# Altium footprint library D1.PcbLib: 36 footprints (part 2 of 3)
Each footprint in its own frame and in the unit in brackets; x right, y up, seen from the top. Pads: shape width x height; smd on the part's side, far side on the other; paste and mask are expansions set on the pad; w line width, h text height; cw(c..) or ccw(c..) is an arc to the next point about the centre after c.
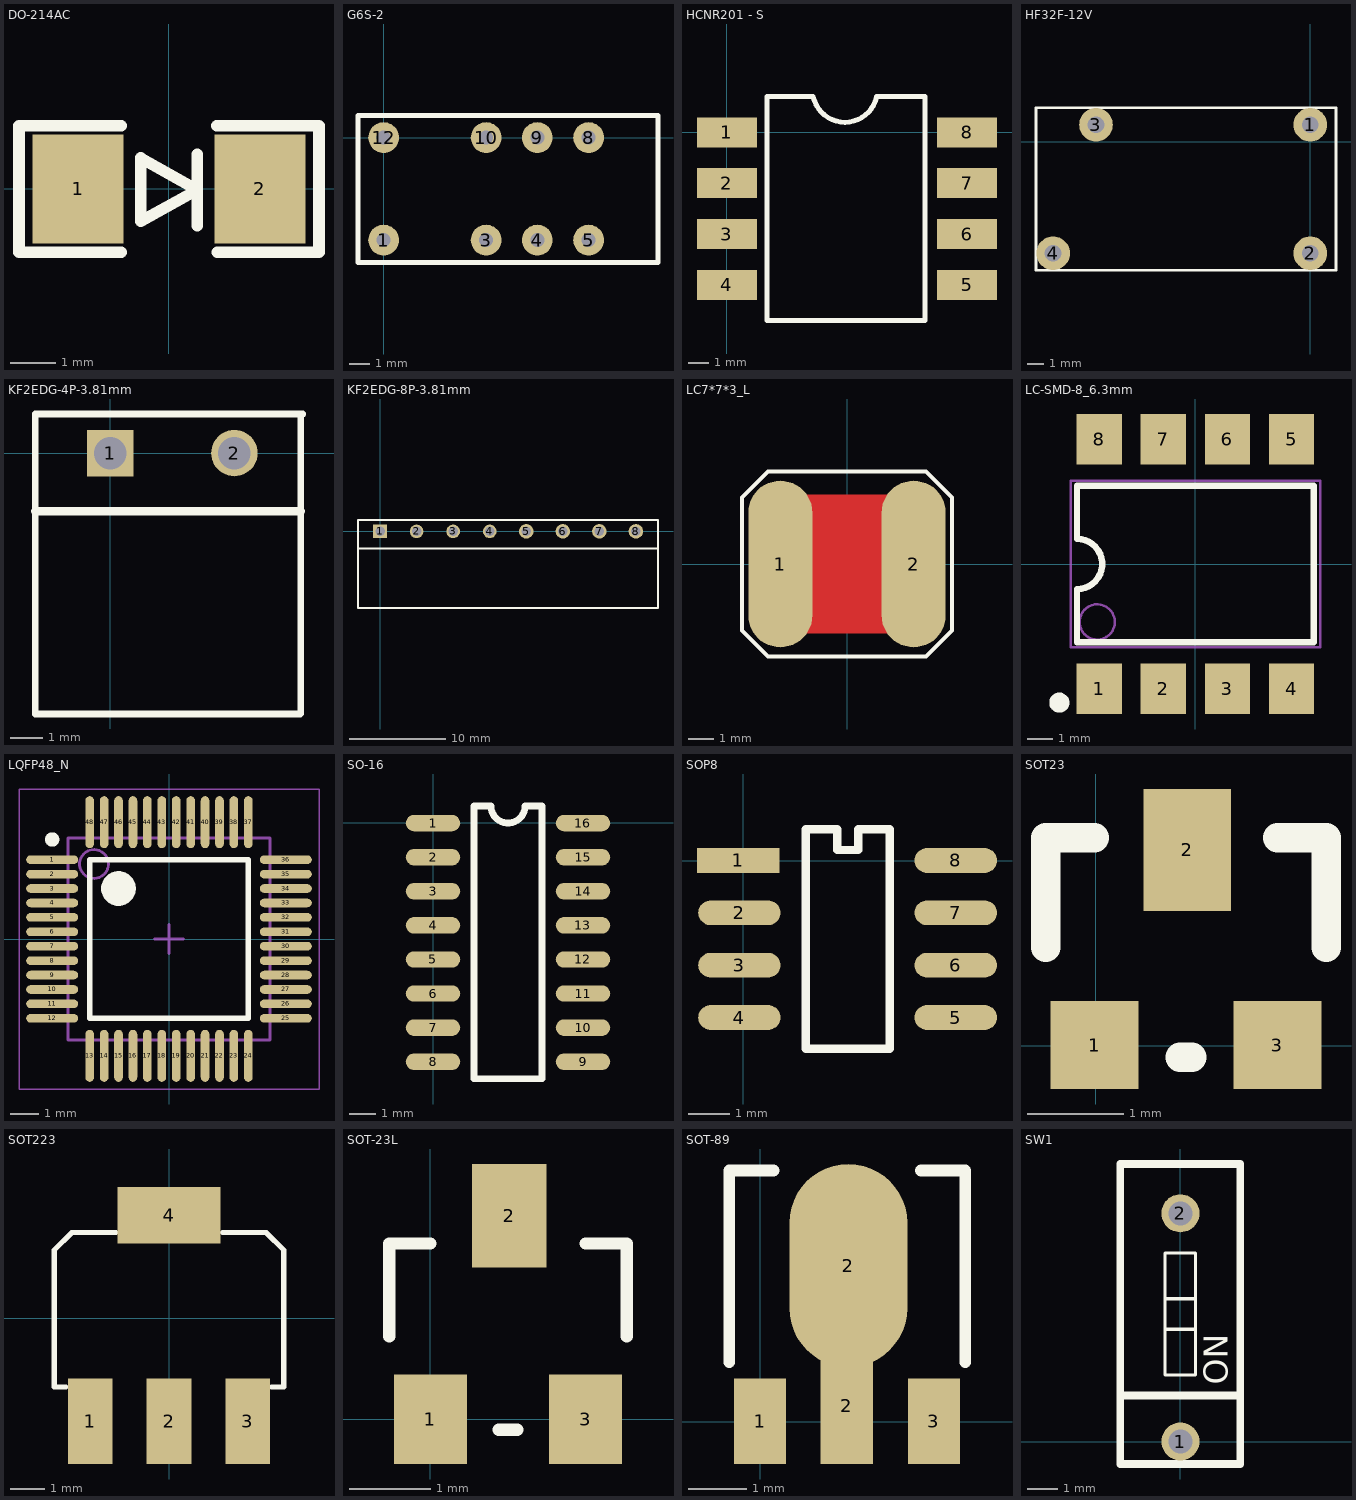
[diagram p1: the footprints below, top view; thin cyan lines are the x and y axes]

## DO-214AC [mm]
height 0.241
pads (2):
  rect 2x2.4 smd: 1(-2,0) 2(2,0)
Top Overlay:
  lines w0.254: -1.054,-1.397 -3.302,-1.397 -3.302,1.397 -1.054,1.397 ; 0.622,-0.813 0.622,0.762 ; 1.054,1.397 3.302,1.397 3.302,-1.397 1.067,-1.397 ; -0.622,-0.711 0.622,-0.025 -0.622,0.686 -0.622,-0.711

## G6S-2 [mil]
pads (8):
  round 60 hole 27.56: 1(0,-200) 3(200,-200) 4(300,-200) 5(400,-200) 8(400,0) 9(300,0) 10(200,0) 12(0,0)
Top Overlay:
  lines w10: -50,-244.09 535.43,-244.09 535.43,43.31 -50,43.31 -50,-244.09

## HCNR201 - S [mm]
height 0.241
pads (8):
  rect 3x1.5 smd: 1(0,0) 2(0,-2.54) 3(0,-5.08) 4(0,-7.62) 5(12,-7.62) 6(12,-5.08) 7(12,-2.54) 8(12,0)
Top Overlay:
  lines w0.254: 2.002,-9.411 2.002,1.789 4.31,1.789 ccw(c5.897,2.131) 7.485,1.789 9.898,1.789 9.898,-9.411 2.002,-9.411

## HF32F-12V [mm]
pads (4):
  round 2 hole 1: 1(0,1.016) 2(0,-6.604) 3(-12.7,1.016) 4(-15.24,-6.604)
Top Overlay:
  lines w0.152: -16.256,-7.62 -16.256,1.016 -16.256,2.032 0.508,2.032 1.524,2.032 1.524,1.016 1.524,-7.112 1.524,-7.62 -16.256,-7.62

## KF2EDG-4P-3.81mm [mil]
height 98.43
pads (2):
  rect 56x56 hole 39.37: 1(0,0)
  round 56 hole 39.37: 2(150,0)
Top Overlay:
  lines w7.87: -90.55,-314.96 -90.55,47.24 232.76,47.24 230,44.49 230,-314.67 229.7,-314.96 -90.55,-314.96
  lines w10: -90.55,-70 230,-70

## KF2EDG-8P-3.81mm [mil]
pads (8):
  rect 56x56 hole 39.37: 1(0,0)
  round 56 hole 39.37: 2(150,0) 3(300,0) 4(450,0)
  round 60 hole 39.37: 5(600,0) 6(750,0) 7(900,0) 8(1050,0)
Top Overlay:
  lines w7.87: -90.55,-70 1140.55,-70 ; -90.55,-314.96 -90.55,47.24 1140.55,47.24 1140.55,-314.96 -90.55,-314.96

## LC7*7*3_L [mm]
height 0.241
pads (2):
  oval 2.5x6.5 smd: 1(-2.6,0) 2(2.6,0)
Top Layer:
  pour cut-out: -1.803,2.705 1.854,2.705 1.854,-2.705 -1.803,-2.705
Top Overlay:
  lines w0.152: 3.048,-3.607 -2.565,-3.607 -3.073,-3.607 -4.089,-2.591 -4.089,2.591 -3.073,3.607 -2.464,3.607 3.073,3.607 4.089,2.591 4.089,-2.591 3.073,-3.607
3D body: height 3.5, standoff 0, extent -2.455,-2.4 1.845,2.4

## LC-SMD-8_6.3mm [mm]
pads (8):
  rect 1.8x2 smd: 1(-3.81,-4.95) 2(-1.27,-4.95) 3(1.27,-4.95) 4(3.81,-4.95) 5(3.81,4.95) 6(1.27,4.95) 7(-1.27,4.95) 8(-3.81,4.95)
Top Overlay:
  circle w0.4: c-5.4,-5.5 r0.2
  lines w0.254: -4.7,-3.1 4.7,-3.1 4.7,3.1 -4.7,3.1 -4.7,1 cw(c-4.7,0) -4.7,-1 -4.7,-3.1
Mechanical 13:
  circle w0.1: c-3.9,-2.3 r0.7
  lines w0.1: -4.95,-3.3 4.95,-3.3 4.95,3.3 -4.95,3.3 -4.95,-3.3

## LQFP48_N [mm] "Thin QFP, 48-Leads, Body 7x7mm, Pitch 0.5mm, IPC Medium Density"
height 1.6
pads (48):
  oval 1.8x0.3 smd: 1(-4.05,2.75) 2(-4.05,2.25) 3(-4.05,1.75) 4(-4.05,1.25) 5(-4.05,0.75) 6(-4.05,0.25) 7(-4.05,-0.25) 8(-4.05,-0.75) 9(-4.05,-1.25) 10(-4.05,-1.75) 11(-4.05,-2.25) 12(-4.05,-2.75) 25(4.05,-2.75) 26(4.05,-2.25) 27(4.05,-1.75) 28(4.05,-1.25) 29(4.05,-0.75) 30(4.05,-0.25) 31(4.05,0.25) 32(4.05,0.75) 33(4.05,1.25) 34(4.05,1.75) 35(4.05,2.25) 36(4.05,2.75)
  oval 0.3x1.8 smd: 13(-2.75,-4.05) 14(-2.25,-4.05) 15(-1.75,-4.05) 16(-1.25,-4.05) 17(-0.75,-4.05) 18(-0.25,-4.05) 19(0.25,-4.05) 20(0.75,-4.05) 21(1.25,-4.05) 22(1.75,-4.05) 23(2.25,-4.05) 24(2.75,-4.05) 37(2.75,4.05) 38(2.25,4.05) 39(1.75,4.05) 40(1.25,4.05) 41(0.75,4.05) 42(0.25,4.05) 43(-0.25,4.05) 44(-0.75,4.05) 45(-1.25,4.05) 46(-1.75,4.05) 47(-2.25,4.05) 48(-2.75,4.05)
Top Overlay:
  circle w0.25: c-4.05,3.45 r0.125
  circle w0.6: c-1.75,1.75 r0.3
  lines w0.2: -2.75,-2.75 -2.75,2.75 2.75,2.75 2.75,-2.75 -2.75,-2.75
Mechanical 13:
  circle w0.1: c-2.6,2.6 r0.5
  lines w0.1: -3.5,-3.5 -3.5,3.5 3.5,3.5 3.5,-3.5 -3.5,-3.5
Mechanical 15:
  lines w0.05: -5.2,-5.2 -5.2,5.2 5.2,5.2 5.2,-5.2 -5.2,-5.2
  lines w0.1: -0.5,0 0.5,0 ; 0,-0.5 0,0.5
3D body: height 1.6, standoff 0, extent -3.5,-3.5 3.5,3.5

## SO-16 [mil]
height 98.43
pads (16):
  oval 80x24 smd: 1(-0.2,-0.3) 2(-0.2,-50.3) 3(-0.2,-100.3) 4(-0.2,-150.3) 5(-0.2,-200.3) 6(-0.2,-250.3) 7(-0.2,-300.3) 8(-0.2,-350.3) 9(219.8,-350.3) 10(219.8,-300.3) 11(219.8,-250.3) 12(219.8,-200.3) 13(219.8,-150.3) 14(219.8,-100.3) 15(219.8,-50.3) 16(219.8,-0.3)
Top Overlay:
  lines w10: 59.8,-375.3 159.8,-375.3 159.8,24.7 134.8,24.7 cw(c109.8,24.7) 84.8,24.7 59.8,24.7 59.8,-375.3

## SOP8 [mm]
height 0.241
pads (8):
  rect 2x0.6 smd: 1(-0.123,0.006)
  oval 2x0.6 smd: 2(-0.093,-1.264) 3(-0.093,-2.534) 4(-0.093,-3.804) 5(5.157,-3.804) 6(5.157,-2.534) 7(5.157,-1.264) 8(5.157,0.006)
Top Overlay:
  lines w0.203: 1.518,-4.566 3.55,-4.566 3.55,0.768 2.788,0.768 2.788,0.26 2.28,0.26 2.28,0.768 1.518,0.768 1.518,-4.566

## SOT23 [mil]
height 9.5
pads (3):
  rect 36x36 smd: 1(-0.49,0.35) 3(74.51,0.35)
  rect 36x50 smd: 2(37.51,80.35)
Top Overlay:
  lines w12: -20.49,40.35 -20.49,85.35 -0.49,85.35 ; 34.51,-4.65 39.51,-4.65 ; 74.51,85.35 94.51,85.35 94.51,40.35

## SOT223 [mm]
pads (4):
  rect 1.3x2.5 smd: 1(-2.3,-3) 2(0,-3) 3(2.3,-3)
  rect 3x1.65 smd: 4(0,3)
Top Overlay:
  lines w0.152: -3.004,-2 -3.35,-2 -3.35,1.984 -2.834,2.5 -1.549,2.5 ; 1.561,2.5 2.834,2.5 3.35,1.984 3.35,-2.007 ; 2.997,-2.007 3.327,-2.007

## SOT-23L [mm]
pads (3):
  rect 0.9x1.1 smd: 1(0,0) 3(1.905,0)
  rect 0.914x1.27 smd: 2(0.965,2.5)
Top Overlay:
  lines w0.152: -0.508,1.016 -0.508,2.159 0,2.159 ; 0.838,-0.127 1.067,-0.127 ; 1.905,2.159 2.413,2.159 2.413,1.016

## SOT-89 [mm]
height 0.241
pads (4):
  rect 0.9x1.473 smd: 1(0,0.006) 3(2.994,0.006)
  rect 0.9x2 smd: 2(1.494,0.273)
  oval 2.032x3.5 smd: 2(1.519,2.686)
Top Overlay:
  lines w0.203: -0.532,1.022 -0.532,4.324 0.23,4.324 ; 2.77,4.324 3.532,4.324 3.532,1.022

## SW1 [mm]
pads (2):
  round 1.27 hole 0.8: 1(0.011,0.015) 2(0.011,7.62)
Top Overlay:
  lines w0.102: -0.497,3.757 0.519,3.757 ; -0.497,4.773 0.519,4.773 ; -0.497,2.233 0.519,2.233 0.519,6.297 -0.497,6.297 -0.497,2.233
  lines w0.254: -1.989,1.547 2.011,1.547 ; -1.989,-0.735 -1.989,9.265 2.011,9.265 2.011,-0.735 -1.989,-0.735
  text "ON" at 1.586,1.902 h0.8